# EAGLE library part MAX4580 (library GuShH)
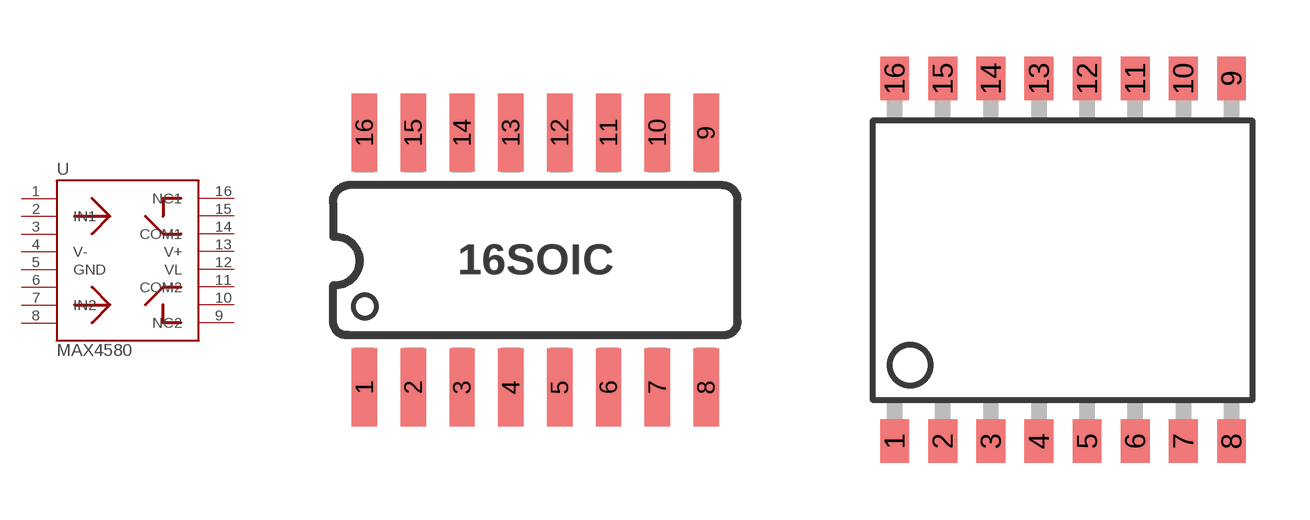
[diagram p1: symbol with the pads of 16-SOIC; footprints 16-SOIC, 16-SOIC-W]

Designator prefix -

## MAX4580*  [16-SOIC]
1  N/C_1  nc
2  IN1  in
3  N/C_2  nc
4  V-  pwr
5  GND  pwr
6  N/C_3  nc
7  IN2  in
8  N/C_4  nc
9  NC2
10  N/C_6  nc
11  COM2
12  VL
13  V+  pwr
14  COM1
15  N/C_5  nc
16  NC1

## MAX4580CWE+-ND  [16-SOIC-W]
Pads as for 16-SOIC

## MAX4580HYBRID  [16-SOIC-W-HYBRID]
Pads as for 16-SOIC

## Footprint 16-SOIC (pad centres in mm)
smd 0.66 x 2.032: 1 -4.445,-3.315; 2 -3.175,-3.315; 3 -1.905,-3.315; 4 -0.635,-3.315; 5 0.635,-3.315; 6 1.905,-3.315; 7 3.175,-3.315; 8 4.445,-3.315; 9 4.445,3.315; 10 3.175,3.315; 11 1.905,3.315; 12 0.635,3.315; 13 -0.635,3.315; 14 -1.905,3.315; 15 -3.175,3.315; 16 -4.445,3.315

## Footprint 16-SOIC-W (pad centres in mm)
smd 0.762 x 1.143: 1 -3.81,-4.788; 2 -2.54,-4.788; 3 -1.27,-4.788; 4 0,-4.788; 5 1.27,-4.788; 6 2.54,-4.788; 7 3.81,-4.788; 8 5.08,-4.788; 9 5.08,4.788; 10 3.81,4.788; 11 2.54,4.788; 12 1.27,4.788; 13 0,4.788; 14 -1.27,4.788; 15 -2.54,4.788; 16 -3.81,4.788

## Footprint 16-SOIC-W-HYBRID (pad centres in mm)
smd 0.762 x 3.7: 1 -3.81,-3.518; 2 -2.54,-3.518; 3 -1.27,-3.518; 4 0,-3.518; 5 1.27,-3.518; 6 2.54,-3.518; 7 3.81,-3.518; 8 5.08,-3.518; 9 5.08,3.518; 10 3.81,3.518; 11 2.54,3.518; 12 1.27,3.518; 13 0,3.518; 14 -1.27,3.518; 15 -2.54,3.518; 16 -3.81,3.518